# EAGLE library part SQJQ160E-T1_GE3 (library SQJQ160E-T1_GE3)
MOSFET N-CHANNEL 60-V (D-S) 175C MOSFET Source: Datasheet <https://www.vishay.com/docs/63059/sqjq160e.pdf>
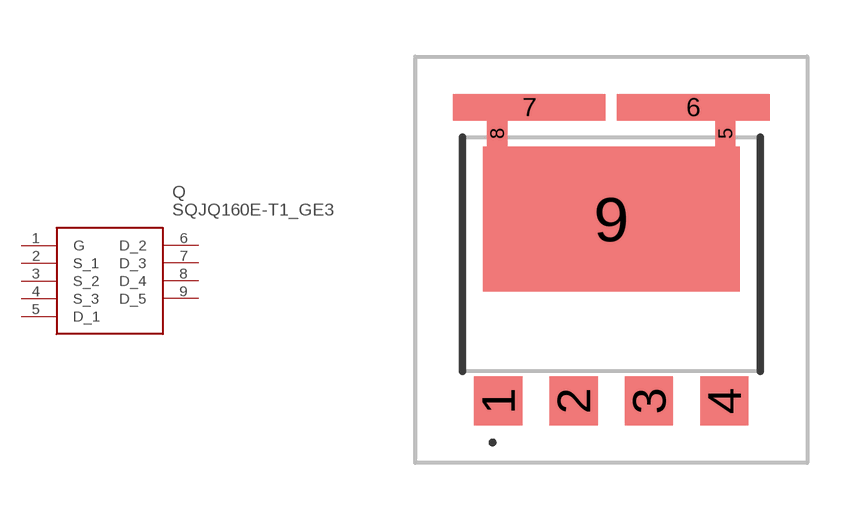
[diagram p0: symbol with the pads of SQJQ160ET1_GE3; footprint SQJQ160ET1_GE3]

Designator prefix Q

## SQJQ160E-T1_GE3 (Description: MOSFET N-CHANNEL 60-V (D-S) 175C MOSFET; Height: 1.65mm; Manufacturer_Name: Vishay; Manufacturer_Part_Number: SQJQ160E-T1_GE3; Mouser_Part_Number: 78-SQJQ160E-T1_GE3; Mouser_Price-Stock: https://www.mouser.co.uk/ProductDetail/Vishay-Semiconductors/SQJQ160E-T1_GE3?qs=Wj%2FVkw3K%252BMDBWZlqh0rWDw%3D%3D)  [SQJQ160ET1_GE3]
1  G
2  S_1
3  S_2
4  S_3
5  D_1
6  D_2
7  D_3
8  D_4
9  D_5

## Footprint SQJQ160ET1_GE3 (pad centres in mm)
PowerPAK® 8 x 8LR BWL
smd 1.28 x 1.3: 1 -3,-3.895; 2 -1,-3.895; 3 1,-3.895; 4 3,-3.895
smd 0.534 x 0.69: 5 3.028,3.2; 8 -3.028,3.2
smd 4.05 x 0.7: 6 2.175,3.895; 7 -2.175,3.895
smd 6.82 x 3.85: 9 0,0.93